# Altium integrated library ST Video Vert Processor Deflector.IntLib: 17 symbols
Pins are listed as number, name and electrical type; pins without a type are passive.

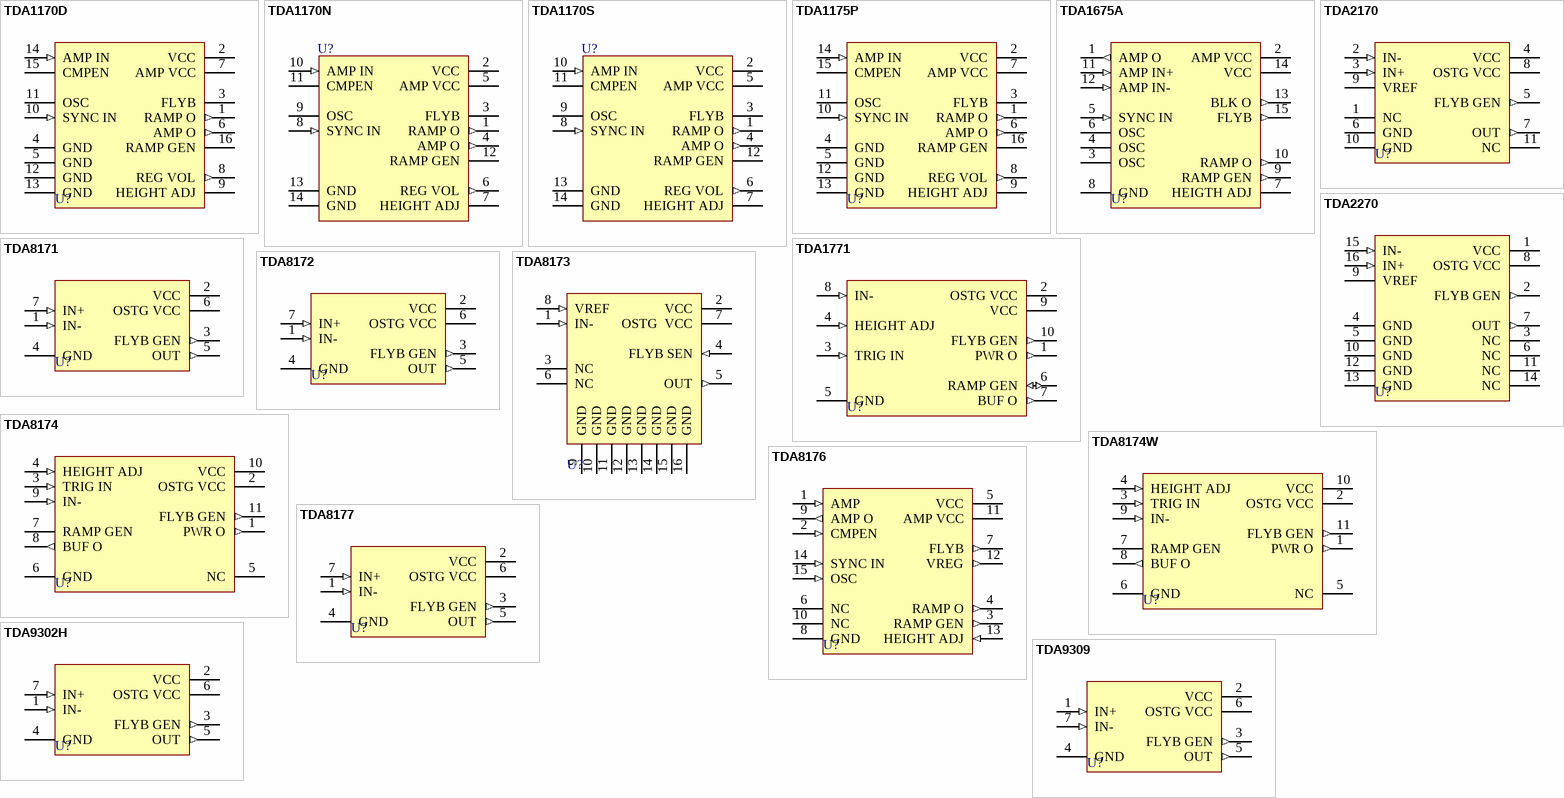
[diagram p0: symbols TDA1170D to TDA9309]

## TDA1170D
designator U?
Low-Noise TV Vertical Deflection System; Published: 24-Aug-2001; LatestRevisionDate: 17-Jul-2002; LatestRevisionNote: Re-released for DXP Platform.; DatasheetDocument: Dec-1992; PackageDocument: Apr-1996; PackageReference: DIP16; Publisher: Altium Limited
footprint DIP16 (DIP; 16 Leads; Row Spacing 7.62 mm; Pitch 2.54 mm)
pins: 1 RAMP O (out), 2 VCC (power), 3 FLYB, 4 GND (power), 5 GND (power), 6 AMP O (out), 7 AMP VCC (power), 8 REG VOL (out), 9 HEIGHT ADJ, 10 SYNC IN (in), 11 OSC, 12 GND (power), 13 GND (power), 14 AMP IN (in), 15 CMPEN, 16 RAMP GEN

## TDA1170N
designator U?
Low-Noise TV Vertical Deflection System; Published: 24-Aug-2001; LatestRevisionDate: 17-Jul-2002; LatestRevisionNote: Re-released for DXP Platform.; DatasheetDocument: Dec-1992; PackageReference: FINDIP12; Publisher: Altium Limited
footprint FINDIP12 (QUIP; 12 Leads, in two Staggered Rows, plus 2 Heatsink tabs)
pins: 1 RAMP O (out), 2 VCC (power), 3 FLYB, 4 AMP O (out), 5 AMP VCC (power), 6 REG VOL (out), 7 HEIGHT ADJ, 8 SYNC IN (in), 9 OSC, 10 AMP IN (in), 11 CMPEN, 12 RAMP GEN, 13 GND (power), 14 GND (power)

## TDA1170S
designator U?
TV Vertical Deflection; Published: 24-Aug-2001; LatestRevisionDate: 17-Jul-2002; LatestRevisionNote: Re-released for DXP Platform.; DatasheetDocument: Dec-1992; PackageReference: FINDIP12; Publisher: Altium Limited
footprint FINDIP12 (QUIP; 12 Leads, in two Staggered Rows, plus 2 Heatsink tabs)
pins: 1 RAMP O (out), 2 VCC (power), 3 FLYB, 4 AMP O (out), 5 AMP VCC (power), 6 REG VOL (out), 7 HEIGHT ADJ, 8 SYNC IN (in), 9 OSC, 10 AMP IN (in), 11 CMPEN, 12 RAMP GEN, 13 GND (power), 14 GND (power)

## TDA1175P
designator U?
Low-Noise Vertical Deflection System; Published: 24-Aug-2001; LatestRevisionDate: 17-Jul-2002; LatestRevisionNote: Re-released for DXP Platform.; DatasheetDocument: Aug-1995; PackageDocument: Apr-1996; PackageReference: DIP16; Publisher: Altium Limited
footprint DIP16 (DIP; 16 Leads; Row Spacing 7.62 mm; Pitch 2.54 mm)
pins: 1 RAMP O (out), 2 VCC (power), 3 FLYB, 4 GND (power), 5 GND (power), 6 AMP O (out), 7 AMP VCC (power), 8 REG VOL (out), 9 HEIGHT ADJ, 10 SYNC IN (in), 11 OSC, 12 GND (power), 13 GND (power), 14 AMP IN (in), 15 CMPEN, 16 RAMP GEN

## TDA1675A
designator U?
Vertical Deflection Circuit; Published: 24-Aug-2001; LatestRevisionDate: 17-Jul-2002; LatestRevisionNote: Re-released for DXP Platform.; DatasheetDocument: Sep-1993; PackageReference: MULTIWATT15; Publisher: Altium Limited
footprint MULTIWATT15 (TO, Thru-Hole, Vertical, Heatsink Mounted; 15 Bent Staggered Leads; Pitch 1.27 mm)
pins: 1 AMP O (out), 2 AMP VCC (power), 3 OSC, 4 OSC, 5 SYNC IN (in), 6 OSC, 7 HEIGTH ADJ, 8 GND (power), 9 RAMP GEN (out), 10 RAMP O (out), 11 AMP IN+ (in), 12 AMP IN- (in), 13 BLK O (out), 14 VCC (power), 15 FLYB (out)

## TDA1771
designator U?
Vertical Deflection Circuit; Published: 24-Aug-2001; LatestRevisionDate: 17-Jul-2002; LatestRevisionNote: Re-released for DXP Platform.; DatasheetDocument: Sep-1993; PackageDocument: Oct-1997; PackageReference: SIP10; Publisher: Altium Limited
footprint SIP10 (TO, Thru-Hole, Vertical, Heatsink Mounted; 10 In-Line Leads; Pitch 2.54 mm)
pins: 1 PWR O (out), 2 OSTG VCC (power), 3 TRIG IN (in), 4 HEIGHT ADJ (in), 5 GND (power), 6 RAMP GEN (io), 7 BUF O (out), 8 IN- (in), 9 VCC (power), 10 FLYB GEN (out)

## TDA2170
designator U?
TV Vertical Deflection Output Circuit; Published: 24-Aug-2001; LatestRevisionDate: 17-Jul-2002; LatestRevisionNote: Re-released for DXP Platform.; DatasheetDocument: Dec-1992; PackageReference: MULTIWATT11; Publisher: Altium Limited
footprint MULTIWATT11 (TO, Thru-Hole, Vertical, Heatsink Mounted; 11 Bent Staggered Leads; Pitch 1.7 mm)
pins: 1 NC, 2 IN- (in), 3 IN+ (in), 4 VCC (power), 5 FLYB GEN (out), 6 GND (power), 7 OUT (out), 8 OSTG VCC (power), 9 VREF, 10 GND (power), 11 NC

## TDA2270
designator U?
TV Vertical Deflection Output Circuit; Published: 24-Aug-2001; LatestRevisionDate: 17-Jul-2002; LatestRevisionNote: Re-released for DXP Platform.; DatasheetDocument: Sep-1992; PackageDocument: Apr-1996; PackageReference: DIP16; Publisher: Altium Limited
footprint DIP16 (DIP; 16 Leads; Row Spacing 7.62 mm; Pitch 2.54 mm)
pins: 1 VCC (power), 2 FLYB GEN (out), 3 NC, 4 GND (power), 5 GND (power), 6 NC, 7 OUT (out), 8 OSTG VCC (power), 9 VREF, 10 GND (power), 11 NC, 12 GND (power), 13 GND (power), 14 NC, 15 IN- (in), 16 IN+ (in)

## TDA8171
designator U?
TV Vertical Deflection Booster; Note: Pin number 7is Non-Inverting Input + Reference Voltage.; Published: 24-Aug-2001; LatestRevisionDate: 17-Jul-2002; LatestRevisionNote: Re-released for DXP Platform.; DatasheetDocument: Dec-1998; PackageDocument: Jan-1995; PackageReference: HEPTAWATT7; Publisher: Altium Limited
footprint HEPTAWATT7 (TO, Thru-Hole, Vertical, Heatsink Mounted; 7 Bent Staggered Leads; Pitch 1.27 mm)
pins: 1 IN- (in), 2 VCC (power), 3 FLYB GEN (out), 4 GND (power), 5 OUT (out), 6 OSTG VCC (power), 7 IN+ (in)

## TDA8172
designator U?
TV Vertical Deflection Output Circuit; Published: 24-Aug-2001; LatestRevisionDate: 17-Jul-2002; LatestRevisionNote: Re-released for DXP Platform.; DatasheetDocument: May-1996; PackageDocument: Jan-1995; PackageReference: HEPTAWATT7; Publisher: Altium Limited
footprint HEPTAWATT7 (TO, Thru-Hole, Vertical, Heatsink Mounted; 7 Bent Staggered Leads; Pitch 1.27 mm)
pins: 1 IN- (in), 2 VCC (power), 3 FLYB GEN (out), 4 GND (power), 5 OUT (out), 6 OSTG VCC (power), 7 IN+ (in)

## TDA8173
designator U?
TV Vertical Deflection Output Circuit; Published: 24-Aug-2001; LatestRevisionDate: 17-Jul-2002; LatestRevisionNote: Re-released for DXP Platform.; DatasheetDocument: May-1993; PackageDocument: Apr-1996; PackageReference: DIP16; Publisher: Altium Limited
footprint DIP16 (DIP; 16 Leads; Row Spacing 7.62 mm; Pitch 2.54 mm)
pins: 1 IN- (in), 2 VCC (power), 3 NC, 4 FLYB SEN (in), 5 OUT (out), 6 NC, 7 OSTG  VCC (power), 8 VREF (in), 9 GND (power), 10 GND (power), 11 GND (power), 12 GND (power), 13 GND (power), 14 GND (power), 15 GND (power), 16 GND (power)

## TDA8174
designator U?
Vertical Deflection Circuit; Published: 24-Aug-2001; LatestRevisionDate: 17-Jul-2002; LatestRevisionNote: Re-released for DXP Platform.; DatasheetDocument: Apr-1996; PackageReference: MULTIWATT11A; Publisher: Altium Limited
footprint MULTIWATT11A (TO, Thru-Hole, Vertical, Heatsink Mounted; 11 Bent Staggered Leads; Pitch 1.7 mm)
pins: 1 PWR O (out), 2 OSTG VCC (power), 3 TRIG IN (in), 4 HEIGHT ADJ (in), 5 NC, 6 GND (power), 7 RAMP GEN, 8 BUF O (out), 9 IN- (in), 10 VCC (power), 11 FLYB GEN (out)

## TDA8174W
designator U?
Vertical Deflection Circuit; Published: 24-Aug-2001; LatestRevisionDate: 17-Jul-2002; LatestRevisionNote: Re-released for DXP Platform.; DatasheetDocument: Apr-1996; PackageReference: PCLIPWATT11; Publisher: Altium Limited
footprint PCLIPWATT11 (In-Line; 11 Zig-Zag Leads; Body 20 x 3.25mm; Pitch 1.7 mm)
pins: 1 PWR O (out), 2 OSTG VCC (power), 3 TRIG IN (in), 4 HEIGHT ADJ (in), 5 NC, 6 GND (power), 7 RAMP GEN, 8 BUF O (out), 9 IN- (in), 10 VCC (power), 11 FLYB GEN (out)

## TDA8176
designator U?
TV Vertical Deflection System for TV and Monitor; Published: 24-Aug-2001; LatestRevisionDate: 17-Jul-2002; LatestRevisionNote: Re-released for DXP Platform.; DatasheetDocument: Nov-1992; PackageReference: MULTIWATT15; Publisher: Altium Limited
footprint MULTIWATT15 (TO, Thru-Hole, Vertical, Heatsink Mounted; 15 Bent Staggered Leads; Pitch 1.27 mm)
pins: 1 AMP (in), 2 CMPEN (in), 3 RAMP GEN (out), 4 RAMP O (out), 5 VCC (power), 6 NC, 7 FLYB (out), 8 GND (power), 9 AMP O (out), 10 NC, 11 AMP VCC (power), 12 VREG (out), 13 HEIGHT ADJ (in), 14 SYNC IN (in), 15 OSC (in)

## TDA8177
designator U?
TV Vertical Deflection Booster; Published: 24-Aug-2001; LatestRevisionDate: 17-Jul-2002; LatestRevisionNote: Re-released for DXP Platform.; DatasheetDocument: Dec-1998; PackageDocument: Jan-1995; PackageReference: HEPTAWATT7; Publisher: Altium Limited
footprint HEPTAWATT7 (TO, Thru-Hole, Vertical, Heatsink Mounted; 7 Bent Staggered Leads; Pitch 1.27 mm)
pins: 1 IN- (in), 2 VCC (power), 3 FLYB GEN (out), 4 GND (power), 5 OUT (out), 6 OSTG VCC (power), 7 IN+ (in)

## TDA9302H
designator U?
Vertical Deflection Output Circuit; Published: 24-Aug-2001; LatestRevisionDate: 17-Jul-2002; LatestRevisionNote: Re-released for DXP Platform.; DatasheetDocument: Aug-1992; PackageDocument: Jan-1995; PackageReference: HEPTAWATT7; Publisher: Altium Limited
footprint HEPTAWATT7 (TO, Thru-Hole, Vertical, Heatsink Mounted; 7 Bent Staggered Leads; Pitch 1.27 mm)
pins: 1 IN- (in), 2 VCC (power), 3 FLYB GEN (out), 4 GND (power), 5 OUT (out), 6 OSTG VCC (power), 7 IN+ (in)

## TDA9309
designator U?
Vertical Deflection Booster; Published: 24-Aug-2001; LatestRevisionDate: 17-Jul-2002; LatestRevisionNote: Re-released for DXP Platform.; DatasheetDocument: Nov-1996; PackageDocument: Jan-1995; PackageReference: HEPTAWATT7; Publisher: Altium Limited
footprint HEPTAWATT7 (TO, Thru-Hole, Vertical, Heatsink Mounted; 7 Bent Staggered Leads; Pitch 1.27 mm)
pins: 1 IN+ (in), 2 VCC (power), 3 FLYB GEN (out), 4 GND (power), 5 OUT (out), 6 OSTG VCC (power), 7 IN- (in)